# Altium schematic symbol library battery.SchLib: 1 symbol
Pins are listed as number, name and electrical type; pins without a type are passive.

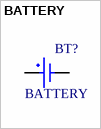
[diagram p0: symbol BATTERY]

## BATTERY
designator BT?
value: CR2032
footprint CR2032_H (CR2032 BATTERY HOLDER HORIZONTAL)
footprint CR2032_V (CR2032 BATTERY HOLDER VERTICAL)
footprint CR1220_H (CR1220 BATTERY HOLDER HORIZONTAL)
pins: 1 +, 2 -